# EAGLE library part TDA19988 (library microbuilder)
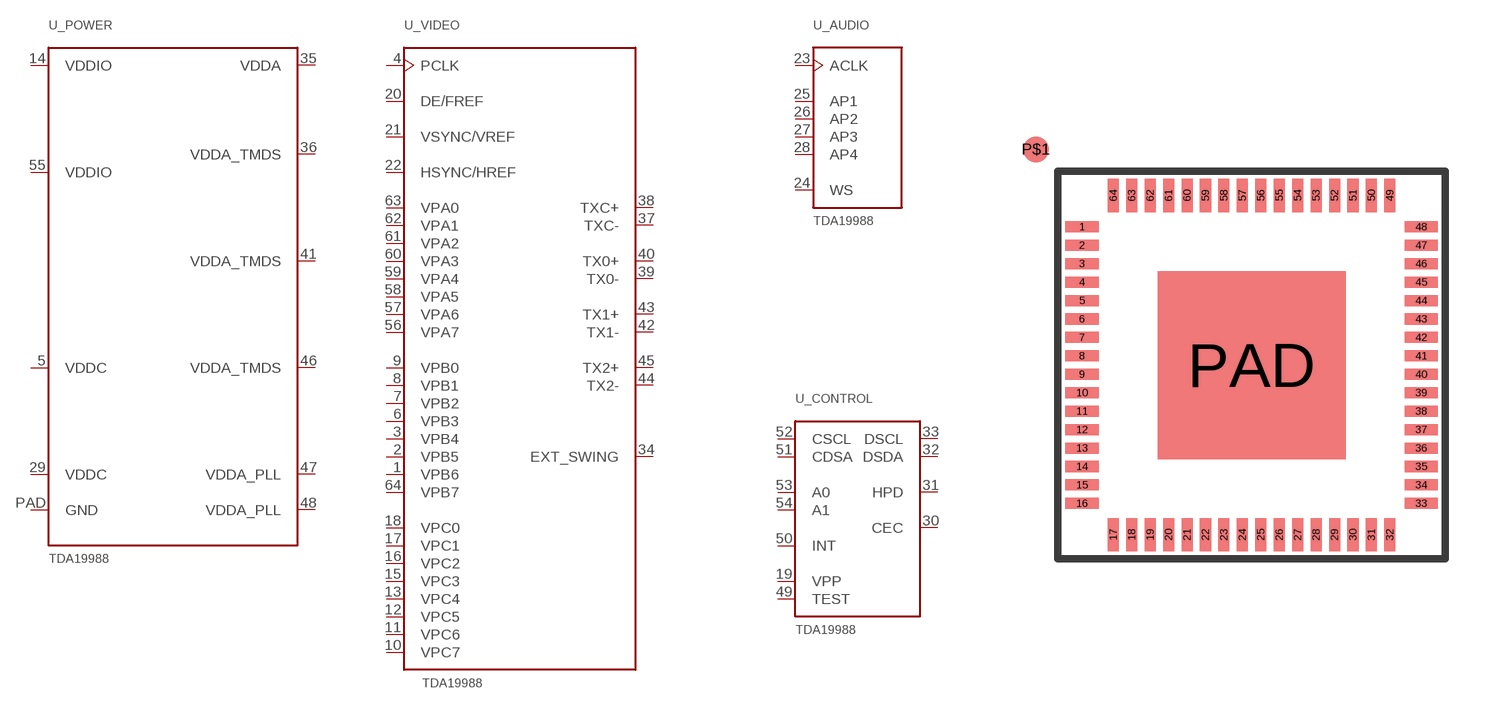
[diagram p148: symbol with the pads of HVQFN64; footprint HVQFN64]

Designator prefix U; gates _AUDIO=TDA19988_AUDIO _CONTROL=TDA19988_CTRL _POWER=TDA19988_PWR _VIDEO=TDA19988_VIDEO

## TDA19988  [HVQFN64]
1  _VIDEO:VPB6  in
2  _VIDEO:VPB5  in
3  _VIDEO:VPB4  in
4  _VIDEO:PCLK  in
5  _POWER:VDDC  pwr
6  _VIDEO:VPB3  in
7  _VIDEO:VPB2  in
8  _VIDEO:VPB1  in
9  _VIDEO:VPB0  in
10  _VIDEO:VPC7  in
11  _VIDEO:VPC6  in
12  _VIDEO:VPC5  in
13  _VIDEO:VPC4  in
14  _POWER:VDDIO  pwr
15  _VIDEO:VPC3  in
16  _VIDEO:VPC2  in
17  _VIDEO:VPC1  in
18  _VIDEO:VPC0  in
19  _CONTROL:VPP
20  _VIDEO:DE/FREF  in
21  _VIDEO:VSYNC/VREF  in
22  _VIDEO:HSYNC/HREF  in
23  _AUDIO:ACLK  in
24  _AUDIO:WS  in
25  _AUDIO:AP1  in
26  _AUDIO:AP2  in
27  _AUDIO:AP3  in
28  _AUDIO:AP4  in
29  _POWER:VDDC  pwr
30  _CONTROL:CEC
31  _CONTROL:HPD
32  _CONTROL:DSDA
33  _CONTROL:DSCL
34  _VIDEO:EXT_SWING  out
35  _POWER:VDDA  pwr
36  _POWER:VDDA_TMDS  pwr
37  _VIDEO:TXC-  out
38  _VIDEO:TXC+  out
39  _VIDEO:TX0-  out
40  _VIDEO:TX0+  out
41  _POWER:VDDA_TMDS  pwr
42  _VIDEO:TX1-  out
43  _VIDEO:TX1+  out
44  _VIDEO:TX2-  out
45  _VIDEO:TX2+  out
46  _POWER:VDDA_TMDS  pwr
47  _POWER:VDDA_PLL  pwr
48  _POWER:VDDA_PLL  pwr
49  _CONTROL:TEST
50  _CONTROL:INT
51  _CONTROL:CDSA
52  _CONTROL:CSCL
53  _CONTROL:A0
54  _CONTROL:A1
55  _POWER:VDDIO  pwr
56  _VIDEO:VPA7  in
57  _VIDEO:VPA6  in
58  _VIDEO:VPA5  in
59  _VIDEO:VPA4  in
60  _VIDEO:VPA3  in
61  _VIDEO:VPA2  in
62  _VIDEO:VPA1  in
63  _VIDEO:VPA0  in
64  _VIDEO:VPB7  in
PAD  _POWER:GND  pwr

## Footprint HVQFN64 (pad centres in mm)
smd 0.9 x 0.3: 1 -4.6,3.75; 2 -4.6,3.25; 3 -4.6,2.75; 4 -4.6,2.25; 5 -4.6,1.75; 6 -4.6,1.25; 7 -4.6,0.75; 8 -4.6,0.25; 9 -4.6,-0.25; 10 -4.6,-0.75; 11 -4.6,-1.25; 12 -4.6,-1.75; 13 -4.6,-2.25; 14 -4.6,-2.75; 15 -4.6,-3.25; 16 -4.6,-3.75; 33 4.6,-3.75; 34 4.6,-3.25; 35 4.6,-2.75; 36 4.6,-2.25; 37 4.6,-1.75; 38 4.6,-1.25; 39 4.6,-0.75; 40 4.6,-0.25; 41 4.6,0.25; 42 4.6,0.75; 43 4.6,1.25; 44 4.6,1.75; 45 4.6,2.25; 46 4.6,2.75; 47 4.6,3.25; 48 4.6,3.75
smd 0.3 x 0.9: 17 -3.75,-4.6; 18 -3.25,-4.6; 19 -2.75,-4.6; 20 -2.25,-4.6; 21 -1.75,-4.6; 22 -1.25,-4.6; 23 -0.75,-4.6; 24 -0.25,-4.6; 25 0.25,-4.6; 26 0.75,-4.6; 27 1.25,-4.6; 28 1.75,-4.6; 29 2.25,-4.6; 30 2.75,-4.6; 31 3.25,-4.6; 32 3.75,-4.6; 49 3.75,4.6; 50 3.25,4.6; 51 2.75,4.6; 52 2.25,4.6; 53 1.75,4.6; 54 1.25,4.6; 55 0.75,4.6; 56 0.25,4.6; 57 -0.25,4.6; 58 -0.75,4.6; 59 -1.25,4.6; 60 -1.75,4.6; 61 -2.25,4.6; 62 -2.75,4.6; 63 -3.25,4.6; 64 -3.75,4.6
smd 0.7 x 0.7: P$1 -5.85,5.85
smd 5.1 x 5.1: PAD 0,0